# EAGLE library part IN-4 (library nixies-us)
IN-4: large numeric topview nixie tube
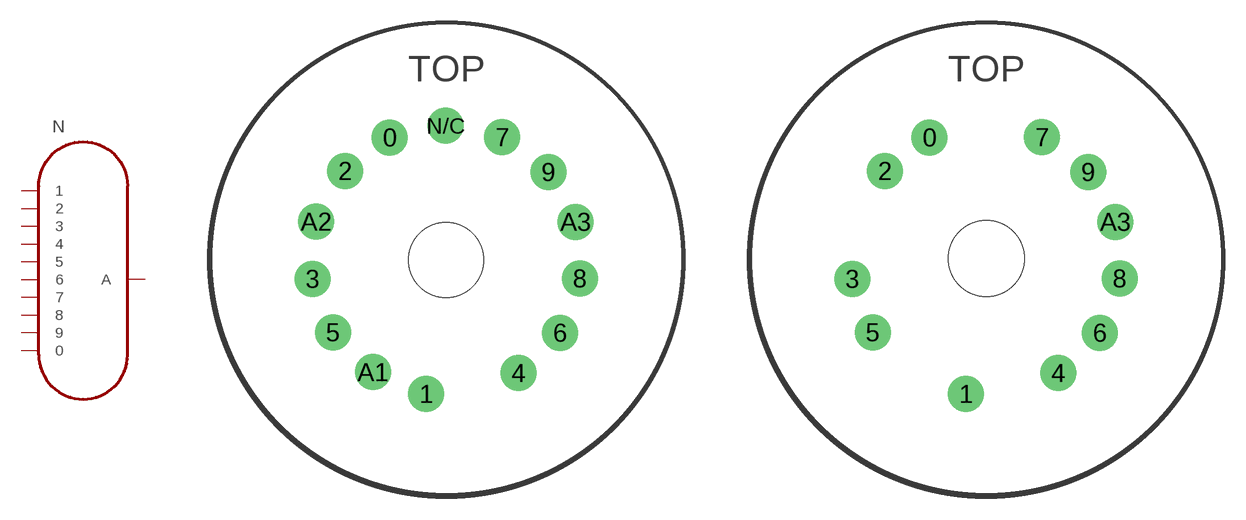
[diagram p14: symbol with the pads of IN-4-DSUB; footprints IN-4-DSUB, IN-4-DSUB-SPARSE]

Designator prefix N

## IN-4  [IN-4-DSUB]
0  0
1  1
2  2
3  3
4  4
5  5
6  6
7  7
8  8
9  9
A3  A

## IN-4SPARSE  [IN-4-DSUB-SPARSE]
Pads as for IN-4-DSUB

## Footprint IN-4-DSUB (pad centres in mm)
May be used with socket: PL31-P
drill 1.6: 0 -3.793,8.084; 1 -1.363,-9.027; 2 -6.784,5.848; 3 -8.938,-1.353; 4 4.793,-7.632; 5 -7.577,-4.914; 6 7.547,-4.945; 7 3.707,8.102; 8 8.878,-1.322; 9 6.789,5.777; A1 -4.919,-7.571; A2 -8.707,2.468; A3 8.601,2.454; N/C -0.063,8.869
hole 5 at -0.033,-0.087

## Footprint IN-4-DSUB-SPARSE (pad centres in mm)
May be used with socket: PL31-P
drill 1.6: 0 -3.793,8.084; 1 -1.363,-9.027; 2 -6.784,5.848; 3 -8.938,-1.353; 4 4.793,-7.632; 5 -7.577,-4.914; 6 7.547,-4.945; 7 3.707,8.102; 8 8.878,-1.322; 9 6.789,5.777; A3 8.601,2.454
hole 5.08 at 0,0